# EAGLE library part WTC3243 (library Lin-Temp-Controller)
WTC3243 linear temp controller chip from Team Wavelength
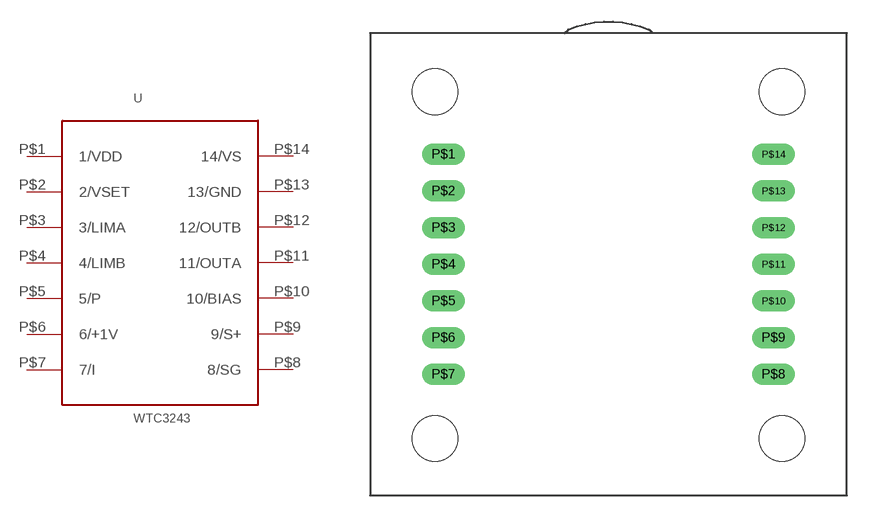
[diagram p0: symbol with the pads of WTC3293; footprint WTC3293]

Designator prefix U

## WTC3243  [WTC3293]
P$1  1/VDD  pwr
P$2  2/VSET  in
P$3  3/LIMA
P$4  4/LIMB
P$5  5/P
P$6  6/+1V
P$7  7/I
P$8  8/SG
P$9  9/S+
P$10  10/BIAS
P$11  11/OUTA
P$12  12/OUTB
P$13  13/GND  pwr
P$14  14/VS  pwr

## Footprint WTC3293 (pad centres in mm)
drill 0.965 long: P$1 -11.43,7.62; P$2 -11.43,5.08; P$3 -11.43,2.54; P$4 -11.43,0; P$5 -11.43,-2.54; P$6 -11.43,-5.08; P$7 -11.43,-7.62; P$8 11.43,-7.62; P$9 11.43,-5.08; P$10 11.43,-2.54; P$11 11.43,0; P$12 11.43,2.54; P$13 11.43,5.08; P$14 11.43,7.62
hole 3.175 at -12.014,11.938
hole 3.175 at 12.014,11.938
hole 3.175 at 12.014,-12.065
hole 3.175 at -12.014,-12.065